# Altium schematic symbol library DCM_8520.SchLib: 1 symbol
Pins are listed as number, name and electrical type; pins without a type are passive.

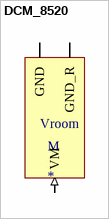
[diagram p0: symbol DCM_8520]

## DCM_8520
designator M  (no BOM)
8520 DC Motor
footprint PCBComponent_1
pins: GND (power), GND_R (power), VM (in)
text: Vroom